# Altium schematic symbol library RPSLib_ElectroMechanical.SchLib: 27 symbols
Pins are listed as number, name and electrical type; pins without a type are passive.

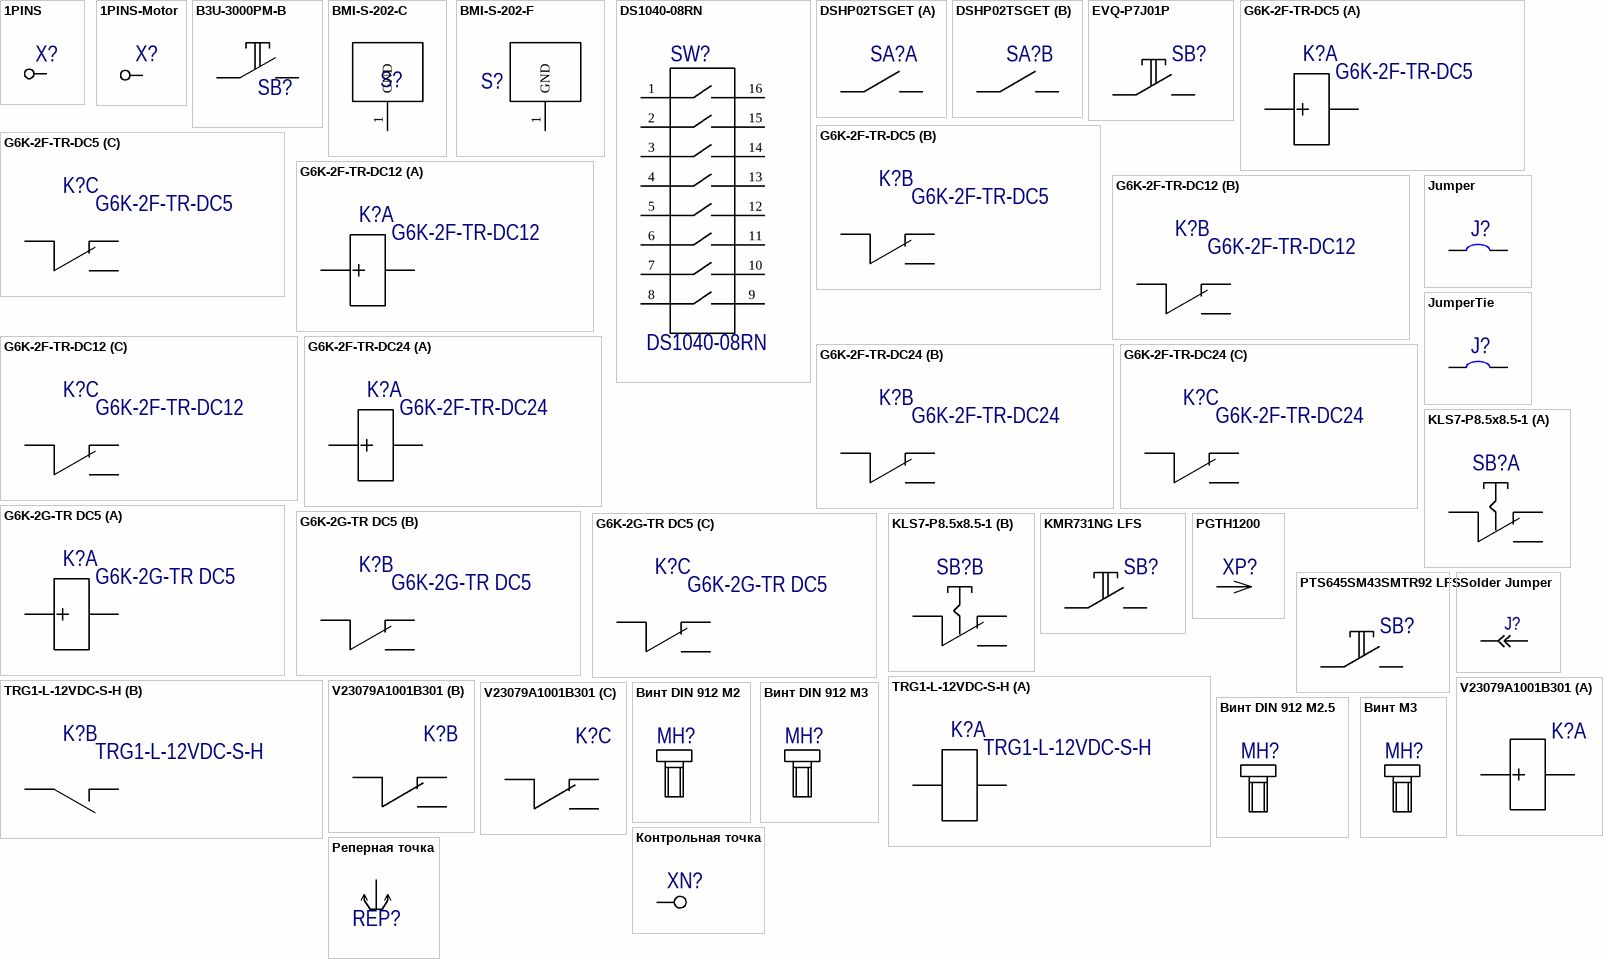
[diagram p0: symbols 1PINS to Реперная точка]

## 1PINS
designator X?  (no BOM)
Точки пайки с отверстием и без
footprint 1Pin-0.6 (Throw hole solder point d0.6x1.2)
footprint 1Pin-0.8 (Throw hole solder point d0.8x1.4)
footprint NKI-1.5-3 (Площадка под наконечник НКИ-1,5-3)
footprint 1Pin-1.0 (Throw hole solder point d1.0x2.0)
footprint 1Pin-1.5 (Throw hole solder point d1.5x2.5)
footprint 1Pin-2x2 (SMD solder point 2x2 mm)
footprint 1Pin-3x3 (SMD solder point 3x3 mm)
footprint 1Pin-4x4 (SMD solder point 4x4 mm)
pins: 1
1 alternate drawing of the same symbol

## 1PINS-Motor
designator X?  (value not drawn)
footprint 1Pin - motor
pins: 1

## B3U-3000PM-B
designator SB?  (value not drawn)
Switch Tactile N.O. SPST Button Gull Wing 0.05A 12VDC 1.59N SMD Embossed T/R; Manufacturer: Omron; Mechanical Life: 100000Cycles; Voltage Rating (DC): 12V; Contact Resistance: 100mR; Current Rating: 50mA; Illumination Type: Non-Illuminated; Connector Type: SMD/SMT; Switch Travel: 0.2mm; Switch Function: Off-Mom; Actuator Length: 0.7mm; Ratings: Dust Proof; Supplier 1: Digi-Key; Manufacturer Part Number: B3U-3000PM-B; RoHS: Yes; Category: Tactile Switches; Stock 1: 529; Pricing 1: 1=1,09000, 10=1,04400, 25=0,98120, 100=0,84750, 250=0,77236, 500=0,71810 (USD); Mount: Surface Mount; Case/Package: SMD/SMT; Weight: 0.022g; Min Operating Temperature: -25°C; Max Operating Temperature: 70°C; Package Quantity: 1000; Operating Force: 1.59N; Packaging: Tape and Reel; Throw Configuration: SPST; Max Voltage Rating (DC): 12V; Termination: Gull Wing; Electrical Life: 100000Cycles; Orientation: Right Angle; Series: B3U; RoHS Compliant: Yes; ComponentLink1URL: https://datasheet.ciiva.com/2901/b3u-1110-2901541.pdf?src-supplier=Digi-Key; ComponentLink1Description: https://datasheet.ciiva.com/2901/b3u-1110-2901541.pdf?src-supplier=Digi-Key; Supplier Part Number 1: Z8276CT-ND
footprint B3U-3000PM-B
pins: 1, 2

## BMI-S-202-C
designator S?  (value not drawn)
EMI Shield Крышка; PartNo: BMI-S-202-C; Supplier 1: Digi-Key; Supplier Part Number 1: 903-1014-ND
pins: 1 GND

## BMI-S-202-F
designator S?  (value not drawn)
BOARD SHIELD .65X.65" FRAME; Manufacturer: Laird; PartNo: BMI-S-202-F; Supplier 1: Digi-Key; Supplier Part Number 1: 903-1051-1-ND; Manufacturer Part Number: BMI-S-202-F; Stock 1: 112335; Pricing 1: 1=1.8, 10=1.622, 25=1.448, 100=1.3032, 250=1.15844 (USD); Mount: Solder; Colour: Grey; Material: Aluminium; Package Quantity: 700; Packaging: Tape and Reel; Length: 16.5mm; Width: 16.5mm; Depth: 3.6mm; REACH SVHC: Unknown; ComponentLink1URL: http://assets.lairdtech.com/home/brandworld/files/Board%20Level%20Shields%20Catalog%20Download.pdf; ComponentLink1Description: http://assets.lairdtech.com/home/brandworld/files/Board%20Level%20Shields%20Catalog%20Download.pdf
footprint BMI-S-202-F (EMI Shield)
pins: 1 GND

## DS1040-08RN
designator SW?
8 pin DIP Switch; Manufacturer: Connfly Electronic; Supplier 1: *; Supplier Part Number 1: *; Manufacturer Part Number: DS1040-08RN
footprint DS1040-08 (DIP switch 8 pos)
pins: 1, 2, 3, 4, 5, 6, 7, 8, 9, 10, 11, 12, 13, 14, 15, 16

## DSHP02TSGET
designator SA?  (value not drawn)
SPST Black Slide (Standard)，Pitch 1.27mm 2 SMD DIP Switches ROHS; Manufacturer: Dongguan Guangzhu Industrial; Supplier 1: LCSC; Manufacturer Part Number: DSHP02TSGET; RoHS: No; Category: Uncategorized; Stock 1: 6866; Pricing 1: 1=0,51400, 10=0,40580, 30=0,35170, 100=0,30480, 500=0,29040, 1000=0,28320 (USD); Supplier Part Number 1: C40735
footprint DSHP02TSGET (2 pos DIP Switch)
part A pins: 1, 4
part B pins: 2, 3

## EVQ-P7J01P
designator SB?  (value not drawn)
Tactile Switches 3.5x2.9mm Right Ang Light Touch Switch; PartNo: 430152070836; Manufacturer: Wurth Elektronik; Mechanical Life: 100000Cycles; Operating Force: 1.6N; Current Rating: 50mA; Voltage Rating (DC): 12V; Throw Configuration: SPST; Contact Resistance: 500mR; Illumination Type: Non-Illuminated; Switch Travel: 0.2mm; Switch Function: Off-Mom; Actuator Length: 0.65mm; ComponentLink1Description: Manufacturer; ComponentLink1URL: http://www.we-online.de; Created by: Baojun Chen; Created Date: Dec.2015; ComponentLink2Description: Datasheet; ComponentLink2URL: http://katalog.we-online.de/em/datasheet/4301x2xxx8x6.pdf; Supplier 1: Digi-Key; Manufacturer Part Number: EVQ-P7J01P; Stock 1: 44998; Pricing 1: 1=0.31, 10=0.303, 25=0.292, 50=0.2814, 100=0.2706, 250=0.24892, 500=0.21644, 1000=0.18397 (USD); Mount: Surface Mount; Case/Package: SMD/SMT; Min Operating Temperature: -20°C; Max Operating Temperature: 70°C; Package Quantity: 5000; Packaging: Tape and Reel; Max Voltage Rating (DC): 12V; Termination: Gull Wing; Contact Current Rating: 50mA; Electrical Life: 100000Cycles; Orientation: Right Angle; Length: 3.5mm; Height: 1.35mm; Width: 2.9mm; Radiation Hardening: No; REACH SVHC: No SVHC; Lead Free: Lead Free; Supplier Part Number 1: P16767CT-ND; РКД Наименование: *
footprint EVQ-P7J01P (Tactile switch)
pins: 1, 2

## G6K-2F-TR-DC5
designator K?
DPDT Surface Mount,  High Frequency Relay 5V dc; Manufacturer: Omron; Manufacturer Part Number: G6K-2F-TR DC5; Coil Current: 21.1mA; Contact Current Rating: 1A; Operate Time: 3ms; Coil Resistance: 237R; Relay Type: Telecom; Coil Type: Non-Latching; Coil Power: 100mW; Supplier 1: Digi-Key; RoHS: Yes; Category: Signal Relays; Stock 1: 47996; Pricing 1: 1=4,03000, 10=3,78200, 25=3,36160, 50=3,19340, 100=3,02530, 250=2,68912 (USD); Mount: Surface Mount; Contact Material: Gold,Silver; Min Operating Temperature: -40°C; Max Operating Temperature: 70°C; Throw Configuration: DPDT; Packaging: Tape and Reel; Coil Voltage (DC): 5V; Termination: Gull Wing; Release Time: 3ms; RoHS Compliant: Yes; ComponentLink1URL: https://www.alliedelec.com/m/d/809242e1cebca9ecdac0792edf5f1d86.pdf?src-supplier=Allied+Electronics; ComponentLink1Description: https://www.alliedelec.com/m/d/809242e1cebca9ecdac0792edf5f1d86.pdf?src-supplier=Allied+Electronics; ComponentLink2URL: https://omronfs.omron.com/en_US/ecb/products/pdf/en-g6k.pdf?src-supplier=Digi-Key; ComponentLink2Description: https://omronfs.omron.com/en_US/ecb/products/pdf/en-g6k.pdf?src-supplier=Digi-Key; Supplier Part Number 1: Z112CT-ND
footprint G6K-2F (G6K Relay)
part A pins: 1, 8
part B pins: 2, 3, 4
part C pins: 5, 6, 7

## G6K-2F-TR-DC12
designator K?
Relay;  E-Mech;  Low Signal;  DPDT;  Cur-Rtg 0.3/1AAC/ADC;  Ctrl-V 12DC;  SMD Mnt;  SMT;  8 Pin; Manufacturer: Omron; Manufacturer Part Number: G6K-2F DC12; Current Rating: 1A; Voltage Rating (AC): 125V; Coil Current: 9.1mA; Operate Time: 3ms; Coil Power: 100mW; Coil Resistance: 1.315kR; Coil Type: Non-Latching; Coil Voltage (DC): 12V; Relay Type: Telecom; Voltage Rating (DC): 60V; Approvals: UL,CSA; Supplier 1: Digi-Key; RoHS: Yes; Category: Signal Relays; Stock 1: 27475; Pricing 1: 1=4,03000, 10=3,78200, 25=3,36160, 50=3,19340, 100=3,02530, 250=2,68912, 500=2,52106 (USD); Mount: Surface Mount,PCB; Number of Pins: 8; Contact Material: Gold,Silver; Weight: 0.7g; Min Operating Temperature: -40°C; Max Operating Temperature: 70°C; Packaging: Rail/Tube; Contact Current Rating: 1A; Throw Configuration: DPDT; Termination: Gull Wing; Release Time: 3ms; Package Quantity: 50; Power Consumption: 100mW; Max Voltage Rating (AC): 125V; Max Voltage Rating (DC): 60V; Max Current Rating: 1A; Series: G6K; Length: 10mm; Depth: 7.8mm; Radiation Hardening: No; RoHS Compliant: Yes; ComponentLink1URL: https://datasheet.ciiva.com/2416/en-g6k-2416598.pdf?src-supplier=Digi-Key; ComponentLink1Description: https://datasheet.ciiva.com/2416/en-g6k-2416598.pdf?src-supplier=Digi-Key; ComponentLink2URL: https://datasheet.ciiva.com/30134/81en-g6k-30134472.pdf?src-supplier=Onlinecomponents.com; ComponentLink2Description: https://datasheet.ciiva.com/30134/81en-g6k-30134472.pdf?src-supplier=Onlinecomponents.com; ComponentLink3URL: https://datasheet.ciiva.com/1524/708329-1524970.pdf?src-supplier=Element14; ComponentLink3Description: https://datasheet.ciiva.com/1524/708329-1524970.pdf?src-supplier=Element14; ComponentLink4URL: https://datasheet.ciiva.com/5243/en-g6k-348800-5243643.pdf?src-supplier=Mouser; ComponentLink4Description: https://datasheet.ciiva.com/5243/en-g6k-348800-5243643.pdf?src-supplier=Mouser; ComponentLink5URL: https://datasheet.ciiva.com/14533/70175660-14533375.pdf?src-supplier=Allied+Electronics; ComponentLink5Description: https://datasheet.ciiva.com/14533/70175660-14533375.pdf?src-supplier=Allied+Electronics; Supplier Part Number 1: Z113-ND
footprint G6K-2F (G6K Relay)
part A pins: 1, 8
part B pins: 2, 3, 4
part C pins: 5, 6, 7

## G6K-2F-TR-DC24
designator K?
RELAY TELECOM DPDT 1A 24VDC; Manufacturer: Omron; Coil Current: 4.6mA; Coil Resistance: 5.22kR; Coil Voltage (DC): 24V; Max Voltage Rating (AC): 125V; Max Voltage Rating (DC): 60V; Operate Time: 3ms; Coil Type: Non-Latching; Coil Power: 100mW; Supplier 1: Digi-Key; Manufacturer Part Number: G6K-2F-TR-DC24; RoHS: Yes; Category: Signal Relays; Stock 1: 5460; Pricing 1: 1=4,25000, 10=3,98100, 25=3,53840, 50=3,36140, 100=3,18440, 250=2,83060 (USD); Mount: Surface Mount; Number of Pins: 8; Weight: 0.7g; Contact Material: Gold,Silver; Min Operating Temperature: -40°C; Max Operating Temperature: 70°C; Packaging: Tape and Reel; Throw Configuration: DPDT; Contact Current Rating: 1A; Max Current Rating: 1A; Termination: Gull Wing; Package Quantity: 900; Relay Type: Telecom; Release Time: 3ms; Radiation Hardening: No; ComponentLink1URL: https://datasheet.ciiva.com/26923/g6k-2f-tr-dc24-26923230.pdf?src-supplier=IIIC; ComponentLink1Description: https://datasheet.ciiva.com/26923/g6k-2f-tr-dc24-26923230.pdf?src-supplier=IIIC; Supplier Part Number 1: Z114CT-ND
footprint G6K-2F (G6K Relay)
part A pins: 1, 8
part B pins: 2, 3, 4
part C pins: 5, 6, 7

## G6K-2G-TR DC5
designator K?
OMRON ELECTRONIC COMPONENTS         G6K-2G-TR DC5            SIGNAL RELAY, DPDT, 5VDC, 1A, SMD; Manufacturer Part Number: G6K-2G-TR-DC5; Power Consumption: 100mW; Coil Current: 21.1mA; Operate Time: 3ms; Coil Resistance: 237R; Relay Type: Telecom; Coil Type: Non-Latching; Coil Voltage (DC): 5V; Max Voltage Rating (AC): 125V; Max Voltage Rating (DC): 60V; Supplier 1: Digi-Key; Manufacturer: Omron; RoHS: Yes; Category: Signal Relays; Mount: Surface Mount; Number of Pins: 8; Weight: 0.7g; Contact Material: Gold,Silver; Min Operating Temperature: -40°C; Max Operating Temperature: 70°C; Package Quantity: 1; Packaging: Tape and Reel; Contact Current Rating: 1A; Throw Configuration: DPDT; Release Time: 3ms; Termination: Gull Wing; Coil Power: 100mW; Max Current Rating: 1A; Length: 10mm; Height: 5mm; Width: 6.5mm; Radiation Hardening: No; REACH SVHC: Unknown; Lead Free: Lead Free; ComponentLink1URL: https://datasheet.ciiva.com/2416/en-g6k-2416486.pdf?src-supplier=Digi-Key; ComponentLink1Description: https://datasheet.ciiva.com/2416/en-g6k-2416486.pdf?src-supplier=Digi-Key; ComponentLink2URL: https://datasheet.ciiva.com/1525/en-g6k-1525321.pdf?src-supplier=Element14; ComponentLink2Description: https://datasheet.ciiva.com/1525/en-g6k-1525321.pdf?src-supplier=Element14; ComponentLink3URL: https://datasheet.ciiva.com/30148/81en-g6k-30148553.pdf?src-supplier=Onlinecomponents.com; ComponentLink3Description: https://datasheet.ciiva.com/30148/81en-g6k-30148553.pdf?src-supplier=Onlinecomponents.com; ComponentLink4URL: https://datasheet.ciiva.com/5246/en-g6k-348800-5246859.pdf?src-supplier=Mouser; ComponentLink4Description: https://datasheet.ciiva.com/5246/en-g6k-348800-5246859.pdf?src-supplier=Mouser; Supplier Part Number 1: Z2657CT-ND
footprint G6K-2G (G6K Relay)
part A pins: 1, 8
part B pins: 2, 3, 4
part C pins: 5, 6, 7

## Jumper
designator J?  (value not drawn)
footprint Jumper_5
footprint Jumper_6
footprint Jumper_7
footprint Jumper_8
footprint Jumper_9
footprint Jumper_10
footprint Jumper_11
footprint Jumper_12
footprint Jumper_13
footprint Jumper_14
footprint Jumper_15
footprint Jumper_16
footprint Jumper_17
footprint Jumper_18
footprint Jumper_19
footprint Jumper_20
footprint Jumper_30 (Перемычка 30 мм отверстия)
footprint Jumper_4
pins: 1, 2

## JumperTie
designator J?  (value not drawn)  (net tie, no BOM)
Перемычка
footprint JumperTie 0.5x2 (Перемычка 0.5х2 мм)
footprint JumperTie 1.0x2 (Перемычка 1.0х2 мм)
footprint JumperTie 1.5x2 (Перемычка 1.5х2 мм)
footprint JumperTie 2.0x2 (Перемычка 2.0х2 мм)
pins: 1, 2

## KLS7-P8.5x8.5-1
designator SB?  (value not drawn)
Кнопка миниатюрная с фиксацией 8.5мм; Manufacturer: KLS; Mechanical Life: 100000Cycles; Actuator Material: Nylon,Polyamide; Max Voltage Rating (DC): 30V; Operating Force: 200gf; Contact Resistance: 100mR; Max Current Rating: 300mA; Illumination Type: Illuminated,Non-Illuminated; Actuator Type: Standard; Actuator Length: 0.85mm; РКД Наименование: *; Supplier 1: ChipDip; Manufacturer Part Number: KLS7-P8.5x8.5-1; Mount: Surface Mount; Case/Package: SMD/SMT; Contact Plating: Silver; Contact Material: Silver; Colour: Black; Min Operating Temperature: -20°C; Max Operating Temperature: 60°C; Packaging: Tape and Reel; Package Quantity: 1000; Voltage Rating (DC): 30V; Orientation: Straight; Length: 14mm; Depth: 9mm; Lead Free: Lead Free; REACH SVHC: No SVHC; Supplier Part Number 1: 63619
footprint KLS7-8.5x8.5 (Standard Vertical Push Switch Series)
part A pins: 1, 2, 3
part B pins: 4, 5, 6

## KMR731NG LFS
designator SB?  (value not drawn)
Tactile Switch SPST-NO Top Actuated Surface Mount; Manufacturer: ITT C&K; Mechanical Life: 150000Cycles; Illumination Type: Non-Illuminated; Operating Force: 300gf; Throw Configuration: SPST; Switch Function: Off-Mom; Actuator Type: Standard; Ratings: Dust Tight,IP67,Waterproof; Supplier 1: Digi-Key; Manufacturer Part Number: KMR731NGLFS; Stock 1: 0; Mount: Surface Mount; Min Operating Temperature: -40°C; Max Operating Temperature: 85°C; Packaging: Tape and Reel; Termination: Gull Wing; Supplier Part Number 1: CKN10687CT-ND; РКД Наименование: *
footprint KMR7 (Tactile button)
pins: 1, 2

## PGTH1200
designator XP?, comment Pogo12mm  (value not drawn)
PogoPin 12mm height; Manufacturer: RTLECS; Manufacturer Part Number: PGTH1200; Current Rating: 1A; Created Date: *; Supplier 1: AliExpress; Stock 1: *; Pricing 1: *; Mount: Throw hole; Min Operating Temperature: -20°C; Max Operating Temperature: 70°C; Package Quantity: 5000; Packaging: Tape and Reel; Lead Free: Lead Free; Supplier Part Number 1: https://aliexpress.ru/item/33044114576.html; РКД Наименование: *; ComponentLink3Description: Order; ComponentLink3URL: https://aliexpress.ru/item/33044114576.html
footprint PGTH1200 (Pogo pin 12mm heigth)
pins: 1

## PTS645SM43SMTR92 LFS
designator SB?  (value not drawn)
SWITCH TACTILE SPST-NO 0.05A 12V; Manufacturer: ITT C&K; Mechanical Life: 100000Cycles; Actuator Material: Nylon,Polyamide; Throw Configuration: SPST; Operating Force: 160gf; Contact Resistance: 100mR; Max Current Rating: 50mA; Illumination Type: Illuminated,Non-Illuminated; Switch Function: Off-Mom; Actuator Type: Standard; Actuator Length: 0.85mm; РКД Наименование: *; Supplier 1: Digi-Key; Manufacturer Part Number: PTS645SM43SMTR92LFS; Stock 1: 537538; Pricing 1: 1=0.16, 10=0.157, 25=0.1516, 50=0.1462, 100=0.1381, 250=0.12996, 500=0.12452 (USD); Mount: Surface Mount; Case/Package: SMD/SMT; Contact Plating: Silver; Contact Material: Silver; Colour: Black; Min Operating Temperature: -20°C; Max Operating Temperature: 60°C; Max Voltage Rating (DC): 12V; Packaging: Tape and Reel; Termination: Gull Wing; Package Quantity: 1000; Current Rating: 50mA; Voltage Rating (DC): 12V; Orientation: Straight; Length: 6mm; Depth: 9mm; Lead Free: Lead Free; REACH SVHC: No SVHC; ComponentLink1URL: https://www.verical.com/server-webapp/html/getDatasheet?partID=786341; ComponentLink1Description: https://www.verical.com/server-webapp/html/getDatasheet?partID=786341; ComponentLink2URL: https://www.ckswitches.com/media/1471/pts645.pdf; ComponentLink2Description: https://www.ckswitches.com/media/1471/pts645.pdf; ComponentLink3URL: https://www.verical.com/server-webapp/html/getDatasheet?partID=764615; ComponentLink3Description: https://www.verical.com/server-webapp/html/getDatasheet?partID=764615; Supplier Part Number 1: CKN9112CT-ND
footprint PTS645_SMT (SMD tactile switch)
pins: 1, 2

## Solder Jumper
designator J?  (value not drawn)  (no BOM)
footprint Solder Jumper
pins: 1, 2

## TRG1-L-12VDC-S-H
designator K?
Relay;  E-Mech;  SPST-NO;  Ctrl-V 12DC; THT Mnt;  THT;  2 Pin; Manufacturer: Tianbo; Coil Resistance: 1.315kR; Coil Type: Non-Latching; Coil Voltage (DC): 12V; Supplier 1: Chip-Dip; Manufacturer Part Number: TRG1-L-12VDC-S-H; RoHS: Yes; Supplier Part Number 1: 8007038445
footprint TRG1 (TRG1 Relay)
part A pins: C1, C2
part B pins: 1 COM, 2 NO

## V23079A1001B301
designator K?  (value not drawn)
Electromechanical Relay Double Pole Double Throw (DPDT) 2A 5VDC 178? Through Hole; Manufacturer: TE Connectivity P&B; Supplier 1: Digi-Key; Manufacturer Part Number: V23079A1001B301; RoHS: Yes; Category: Signal Relays; Stock 1: 1315; Pricing 1: 1=3,24000, 10=3,03800, 25=2,70000, 50=2,56500, 100=2,43000, 250=2,16000, 500=2,02500, 1000=1,89000, 5000=1,82250 (USD); RoHS Compliant: Yes; ComponentLink1URL: https://www.te.com/commerce/DocumentDelivery/DDEController?Action=srchrtrv&amp;DocNm=108-98002&amp;DocType=SS&amp;DocLang=EN&src-supplier=Digi-Key; ComponentLink1Description: https://www.te.com/commerce/DocumentDelivery/DDEController?Action=srchrtrv&amp;DocNm=108-98002&amp;DocType=SS&amp;DocLang=EN&src-supplier=Digi-Key; Supplier Part Number 1: PB288-ND
footprint V23079-THT One coil (Tyco P2 relay through hole  1 coil)
part A pins: 1, 12
part B pins: 3, 4, 5
part C pins: 8, 9, 10

## Винт DIN 912 М2
designator MH?, comment Винт DIN912 М2  (value not drawn)  (no BOM)
Винт DIN 912 цилиндрическая головка внутренний шестигранник М2
footprint DIN 912 M2 (Винт DIN 912 цилиндрическая головка внутренний шестигранник M2)
footprint DIN 912 M2 Electro (Винт DIN 912 цилиндрическая головка внутренний шестигранник M2)
pins: MH0 A (power)

## Винт DIN 912 М2.5
designator MH?, comment Винт DIN912 М2  (value not drawn)  (no BOM)
Винт DIN 912 цилиндрическая головка внутренний шестигранник М2

## Винт DIN 912 М3
designator MH?, comment Винт DIN912 М3  (value not drawn)  (no BOM)
Винт DIN 912 цилиндрическая головка внутренний шестигранник М3
footprint DIN 912 M3 (Винт DIN 912 цилиндрическая головка внутренний шестигранник M3)
footprint DIN 912 M3 Electro (Винт DIN 912 цилиндрическая головка внутренний шестигранник M3)
pins: MH0 A (power)

## Винт М3
designator MH?  (value not drawn)
footprint Винт М3

## Контрольная точка
designator XN?  (value not drawn)  (no BOM)
footprint ControlPoint_1.0 (Контрольная точка d 1.0)
footprint ControlPoint_1.5 (Контрольная точка d 1.5)
footprint ControlPoint_2.0 (Контрольная точка d 2.0)
pins: 1

## Реперная точка
designator REP?  (value not drawn)  (no BOM)
footprint Reper (Опорная точка)
pins: R0 IO